# Altium footprint library JAN1N4108CUR1.PcbLib: 1 footprints
Each footprint in its own frame and in the unit in brackets; x right, y up, seen from the top. Pads: shape width x height; smd on the part's side, far side on the other; paste and mask are expansions set on the pad; w line width, h text height; cw(c..) or ccw(c..) is an arc to the next point about the centre after c.
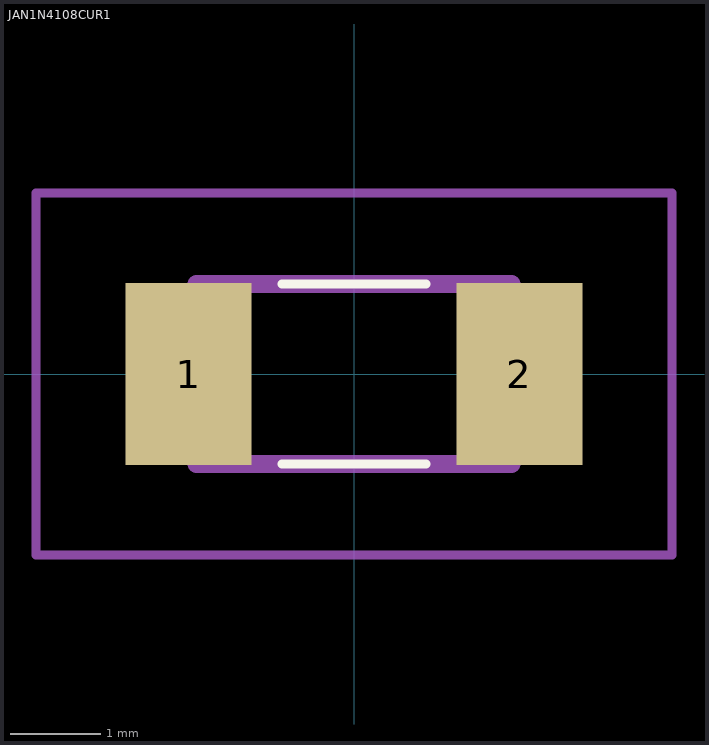
[diagram p0: the footprint, top view; thin cyan lines are the x and y axes]

## JAN1N4108CUR1 [mm]
pads (2):
  rect 1.4x2.03 smd: 1(-1.84,0) 2(1.84,0)
Top Overlay:
  lines w0.1: -0.8,-1 0.8,-1 ; -0.8,1 0.8,1
Mechanical 15:
  lines w0.2: -1.753,-1 1.753,-1 ; -1.753,-0.825 -1.753,0.825 ; -1.753,1 1.753,1 ; 1.753,-0.825 1.753,0.825
Mechanical 20:
  lines w0.1: -3.54,-2.015 -3.54,2.015 3.54,2.015 3.54,-2.015 -3.54,-2.015